# Altium footprint library Resistors.PcbLib: 10 footprints
Each footprint in its own frame and in the unit in brackets; x right, y up, seen from the top. Pads: shape width x height; smd on the part's side, far side on the other; paste and mask are expansions set on the pad; w line width, h text height; cw(c..) or ccw(c..) is an arc to the next point about the centre after c.
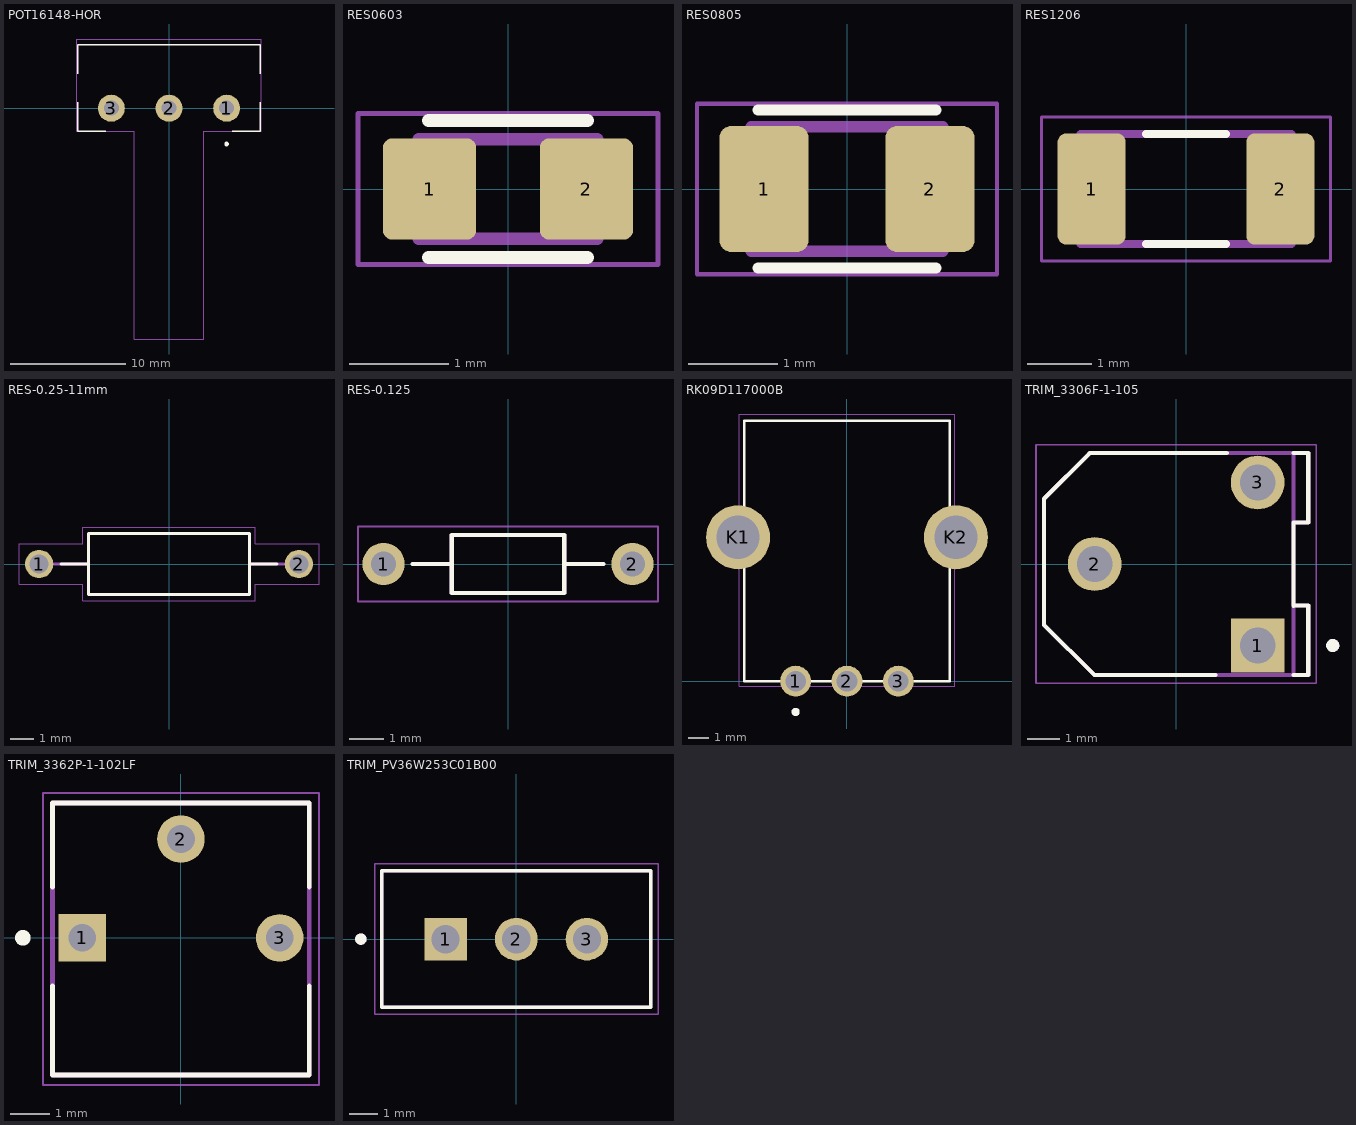
[diagram p0: the footprints below, top view; thin cyan lines are the x and y axes]

## POT16148-HOR [mm]
pads (3):
  round 2.34 hole 1.3: 1(5,0) 2(0,0) 3(-5,0)
Top Overlay:
  circle w0.2: c5,-3.1 r0.1
  lines w0.127: -7.9,0.5 -7.9,-2 -5.5,-2 ; -7.9,3 -7.9,5.5 7.9,5.5 7.9,3 ; 5.5,-2 7.9,-2 7.9,0.5
Border:
  lines w0.05: -8,-2 -8,6 8,6 8,-2 3,-2 3,-20 -3,-20 -3,-2 -8,-2
3D body "User Library-Pot.step": height 20.14, standoff -4.5, extent -7.874,-20 7.874,5.558

## RES0603 [mm]
pads (2):
  rrect20% 0.94x1.02 smd: 1(-0.79,0) 2(0.79,0)
Top Overlay:
  lines w0.127: -0.8,-0.69 0.8,-0.69 ; -0.8,0.69 0.8,0.69
Mechanical 13:
  lines w0.127: -0.9,-0.5 0.9,-0.5 0.9,0.5 -0.9,0.5 -0.9,-0.5
Border:
  lines w0.05: -1.51,-0.76 1.51,-0.76 1.51,0.76 -1.51,0.76 -1.51,-0.76
3D body "User Library-User Library-0603_Res1-1.step": height 1.01, standoff 0.2, extent -1.23,-0.4 1.23,0.4

## RES0805 [mm]
pads (2):
  rrect25% 1x1.42 smd: 1(-0.935,0) 2(0.935,0)
Top Overlay:
  lines w0.127: -1,-0.89 1,-0.89 ; -1,0.89 1,0.89
Mechanical 13:
  lines w0.127: -1.08,-0.7 1.08,-0.7 1.08,0.7 -1.08,0.7 -1.08,-0.7
Border:
  lines w0.05: -1.69,-0.96 1.69,-0.96 1.69,0.96 -1.69,0.96 -1.69,-0.96
3D body "User Library-User Library-0805_Res1.step": height 0.8, standoff 0, extent -1.4,-0.625 1.4,0.625

## RES1206 [mm]
pads (2):
  rrect25% 1.05x1.72 smd: 1(-1.46,0) 2(1.46,0)
Top Overlay:
  lines w0.127: -0.62,-0.85 0.62,-0.85 ; -0.62,0.85 0.62,0.85
Mechanical 13:
  lines w0.127: -1.63,-0.85 1.63,-0.85 1.63,0.85 -1.63,0.85 -1.63,-0.85
Border:
  lines w0.05: -2.235,-1.112 2.235,-1.112 2.235,1.112 -2.235,1.112 -2.235,-1.112
3D body "User Library-User Library-1206_Res1.step": height 1.25, standoff 0, extent -2.27,-0.8 2.27,0.8

## RES-0.25-11mm [mm]
pads (2):
  round 1.2 hole 0.8: 1(-5.5,0) 2(5.5,0)
Top Overlay:
  lines w0.127: -4.58,0 -3.4,0 ; 4.58,0 3.4,0 ; -3.4,0 -3.4,1.3 3.4,1.3 3.4,0 ; -3.4,0 -3.4,-1.3 3.4,-1.3 3.4,0
Mechanical 13:
  lines w0.127: -4.9,0 -3.4,0 ; 4.9,0 3.4,0 ; -3.4,0 -3.4,1.3 3.4,1.3 3.4,0 ; -3.4,0 -3.4,-1.3 3.4,-1.3 3.4,0
Border:
  lines w0.05: -6.35,-0.85 -3.65,-0.85 -3.65,-1.55 3.65,-1.55 3.65,-0.85 6.35,-0.85 6.35,0.85 3.65,0.85 3.65,1.55 -3.65,1.55 -3.65,0.85 -6.35,0.85 -6.35,-0.85
3D body "User Library-resistor 0_25w.step": height 2.54, standoff -3.05, extent -5.652,-1.245 5.702,1.295

## RES-0.125 [mm]
pads (2):
  round 1.238 hole 0.73: 1(-3.65,0) 2(3.65,0)
Top Overlay:
  lines w0.127: -2.8,0 -1.65,0 ; 2.8,0 1.65,0 ; -1.65,0 -1.65,0.85 1.65,0.85 1.65,0 ; -1.65,0 -1.65,-0.85 1.65,-0.85 1.65,0
Mechanical 13:
  lines w0.127: -1.65,-0.85 -1.65,0.85 1.65,0.85 1.65,-0.85 -1.65,-0.85
Border:
  lines w0.05: -4.4,-1.1 -4.4,1.1 4.4,1.1 4.4,-1.1 -4.4,-1.1
3D body "User Library-1_8w_dip.step": height 1.9, standoff -4, extent -4,-0.9 4,0.9

## RK09D117000B [mm]
pads (5):
  round 1.508 hole 1: 1(-2.5,0) 2(0,0) 3(2.5,0)
  round 3.116 hole 2.1: K1(-5.3,7) K2(5.3,7)
Top Overlay:
  circle w0.2: c-2.5,-1.5 r0.1
  lines w0.127: -5,0 5,0 5,12.675 -5,12.675 -5,0
Border:
  lines w0.05: -5.25,-0.25 5.25,-0.25 5.25,13 -5.25,13 -5.25,-0.25
3D body "User Library-RK09K1130-20-1.step": height 20, standoff -3.7, extent -5.723,0.025 5.674,12.675

## TRIM_3306F-1-105 [mm]
pads (3):
  rect 1.65x1.65 hole 1.1: 1(2.5,-2.5)
  round 1.65 hole 1.1: 2(-2.5,0) 3(2.5,2.5)
Top Overlay:
  circle w0.2: c4.8,-2.5 r0.1
  lines w0.127: 1.2,-3.405 -2.51,-3.405 -4.05,-1.87 -4.05,2 -2.65,3.405 1.55,3.405 ; 3.6,-3.405 4.05,-3.405 4.05,-1.27 3.6,-1.27 ; 3.6,-1.28 3.6,-1.27 ; 3.6,3.405 4.05,3.405 4.05,1.27 3.6,1.27 3.6,-1.27
Mechanical 13:
  circle w0.2: c4.8,-2.5 r0.1
  lines w0.127: 3.6,-3.405 4.05,-3.405 4.05,-1.27 3.6,-1.27 ; 3.6,-3.405 3.6,-1.27 ; 3.6,-3.405 -2.51,-3.405 -4.05,-1.87 -4.05,2 -2.65,3.405 3.6,3.405 ; 3.6,-1.27 3.6,1.27 ; 3.6,1.27 4.05,1.27 4.05,3.405 3.6,3.405 ; 3.6,1.27 3.6,3.405
Border:
  lines w0.05: -4.3,-3.655 -4.3,3.655 4.3,3.655 4.3,-3.655 -4.3,-3.655
3D body "User Library-Trimmer, 3306F-1.STEP": height 7.62, standoff -3.04, extent -3.375,-3.405 4.877,3.405

## TRIM_3362P-1-102LF [mm]
pads (3):
  rect 1.222x1.222 hole 0.714: 1(-2.54,0)
  round 1.222 hole 0.714: 2(0,2.54) 3(2.54,0)
Top Overlay:
  circle w0.2: c-4.064,0 r0.1
  lines w0.127: -3.3,-3.53 3.3,-3.53 ; -3.3,-3.52 -3.3,-1.235 ; -3.3,1.305 -3.3,3.47 3.3,3.47 3.3,1.305 ; 3.3,-3.52 3.3,-1.235
Mechanical 13:
  lines w0.127: -3.3,-3.53 -3.3,3.47 3.3,3.47 3.3,-3.53 -3.3,-3.53
Border:
  lines w0.05: -3.55,-3.78 -3.55,3.72 3.55,3.72 3.55,-3.78 -3.55,-3.78
3D body "3362p-1-104lf.stp": height 3.84, standoff -6.32, extent -3.353,-3.56 3.353,3.475

## TRIM_PV36W253C01B00 [mm]
pads (3):
  rect 1.508x1.508 hole 1: 1(-2.5,0)
  round 1.508 hole 1: 2(0,0) 3(2.5,0)
Top Overlay:
  circle w0.2: c-5.5,0 r0.1
  lines w0.127: -4.765,-2.41 -4.765,2.42 4.765,2.42 4.765,-2.41 -4.765,-2.41
Mechanical 13:
  circle w0.2: c-5.5,0 r0.1
  lines w0.127: -4.765,-2.41 -4.765,2.42 4.765,2.42 4.765,-2.41 -4.765,-2.41
Border:
  lines w0.05: -5.015,-2.66 -5.015,2.67 5.015,2.67 5.015,-2.66 -5.015,-2.66
3D body "User Library-3296_Bourns.step": height 11.55, standoff -7.62, extent -4.765,-2.415 4.765,2.415